# EAGLE library part TPS389X (library laforge)
TI TPS3895, TPS3896, TPS3897, TPS3898 Single-Channel, Adjustable Supervisory Circuit in Ultra-Small Package
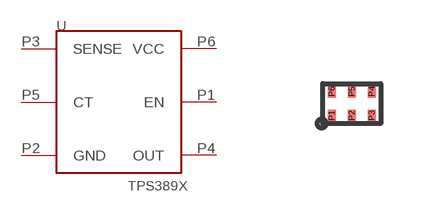
[diagram p39: symbol with the pads of USON6; footprint USON6]

Designator prefix -

## TPS389X  [USON6]
P1  EN  in
P2  GND  pas
P3  SENSE
P4  OUT  out
P5  CT  pas
P6  VCC  pas

## Footprint USON6 (pad centres in mm)
ti R-PUSON-N6
smd 0.2 x 0.3: P1 -0.5,-0.3; P2 0,-0.3; P3 0.5,-0.3; P4 0.5,0.3; P5 0,0.3; P6 -0.5,0.3